# Altium schematic symbol library Schematic_Symbols.SchLib: 10 symbols
Pins are listed as number, name and electrical type; pins without a type are passive.

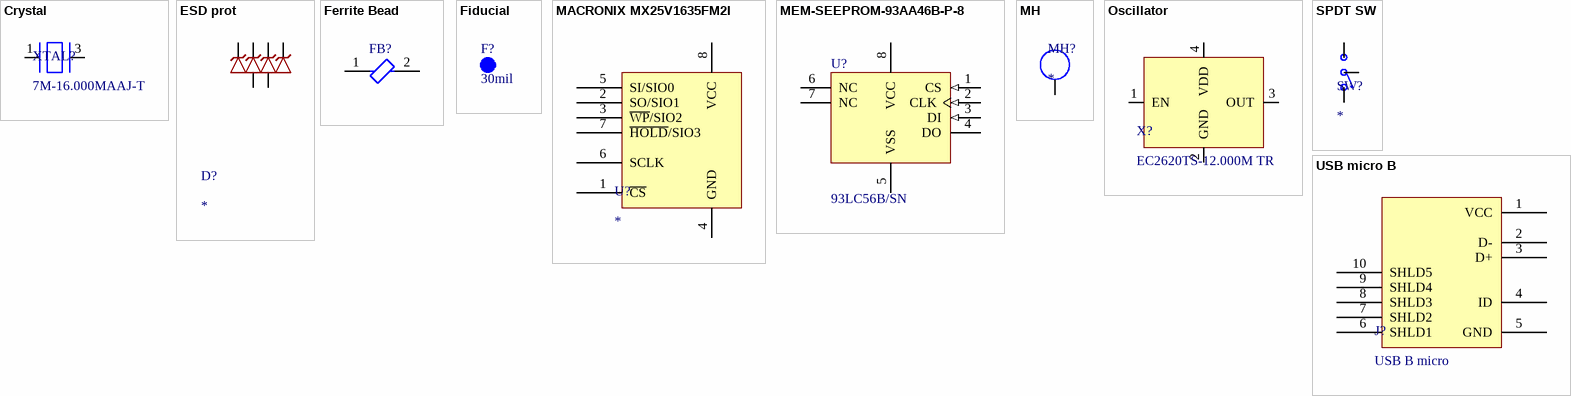
[diagram p0: symbols Crystal to USB micro B]

## Crystal
designator XTAL?, comment 7M-16.000MAAJ-T
Crystal, 16 MHz, SMD, 3.2mm x 2.5mm, 30 ppm, 18 pF, 30 ppm, 7M
footprint 16Mhz_Crystal (16Mhz crystal)
pins: 1, 3

## ESD prot
designator D?
NEXPERIA BZA462A,125
footprint SOT457 (BZA462A,125)
pins: 1, 2, 3, 4, 5, 6

## Ferrite Bead
designator FB?
Chip Ferrite Bead, 0402, 1000Ω @ 100MHz, 0.65Ω, 25%, 300mA; DC Current: 200mA; Number of Circuits: 1; Shielding: Unshielded; Impedance: 1kR; DC Resistance (DCR): 650mR; DC Resistance-Max: 1R; Packaging: Tape and Reel; Case Code (Imperial): 0402; Military Standard: Not; Min Operating Temperature: -55°C; Width: 0.5mm; Tolerance: 25%; Material: Ferrite; Number of Lines: 1; Max Current Rating: 300mA; Depth: 0.55mm; Package Quantity: 1; Case/Package: 0402; Series: BLM15AG_SN; Case Code (Metric): 1005; Max Operating Temperature: 125°C; Lead Free: Lead Free; Test Frequency: 100MHz; RoHS Compliant: Yes; Radiation Hardening: No; Number of Pins: 2; Core Material: Ferrite; Current Rating: 300mA; Frequency: 100MHz; Max DC Current: 200mA; REACH SVHC: No SVHC; Length: 1mm; Termination: SMD/SMT; Height: 0.5mm
footprint CAP_0805 (Chip Capacitor, 2-Leads, Body 2.00x1.25mm, IPC Medium Density)
pins: 1, 2

## Fiducial
designator F?, comment 30mil  (no BOM)
30mil Fiducial
footprint Fiducial30mil
pins: 1

## MACRONIX MX25V1635FM2I
designator U?
Flash Memory, Serial NOR, 16 Mbit, 2M x 8bit, SPI, SOP, 8 Pins
footprint SOP-8
pins: 1 ~{CS} "Chip Select", 2 SO/SIO1 "Serial Data Output (for 1 x I/O)/ Serial Data Input & Output (for 4xI/O read mode)", 3 ~{WP}/SIO2, 4 GND, 5 SI/SIO0 "Serial Data Input (for 1 x I/O)/ Serial Data Input & Output (for 4xI/O read mode)", 6 SCLK "Clock Input", 7 ~{HOLD}/SIO3, 8 VCC

## MEM-SEEPROM-93AA46B-P-8
designator U?, comment 93LC56B/SN
2K, 128x16-bit, 2.5V Microwire Serial EEPROM, 8-Pin SOIC 150mil, Commercial Temperature; DatasheetVersion: revF, May-2008; PackageVersion: revBB, Aug-2009; PackageReference: SOIC-SN8; PackageDescription: 8-Lead Plastic Small Outline (SN) - Narrow, 3.90mm Body [SOIC]; Code_IPC: SOIC127P600-8; Code_JEDEC: MS-012
footprint SOIC8 (SOIC, 8-Leads, Body 4.90x3.90mm, Pitch 1.27mm, IPC Medium Density)
pins: 1 CS (in), 2 CLK (in), 3 DI (in), 4 DO (hiz), 5 VSS (power), 6 NC, 7 NC, 8 VCC (power)

## MH
designator MH?  (no BOM)
3.2mm mounting hole
footprint MH3.2mm
pins: 1

## Oscillator
designator X?, comment EC2620TS-12.000M TR
footprint 7x5mm Crystal (12Mhz)
pins: 1 EN, 2 GND, 3 OUT, 4 VDD

## SPDT SW
designator SW?
footprint SPDT SWITCH (C&K COMPONENTS OS102011MS2QS1)
pins: 1, 2, 3

## USB micro B
designator J?, comment USB B micro
footprint USB Micro B (USB3076)
pins: 1 VCC, 2 D-, 3 D+, 4 ID, 5 GND, 6 SHLD1, 7 SHLD2, 8 SHLD3, 9 SHLD4, 10 SHLD5